# Altium integrated library Micron Memory Parallel NOR Flash.IntLib: 720 symbols (part 148 of 216)
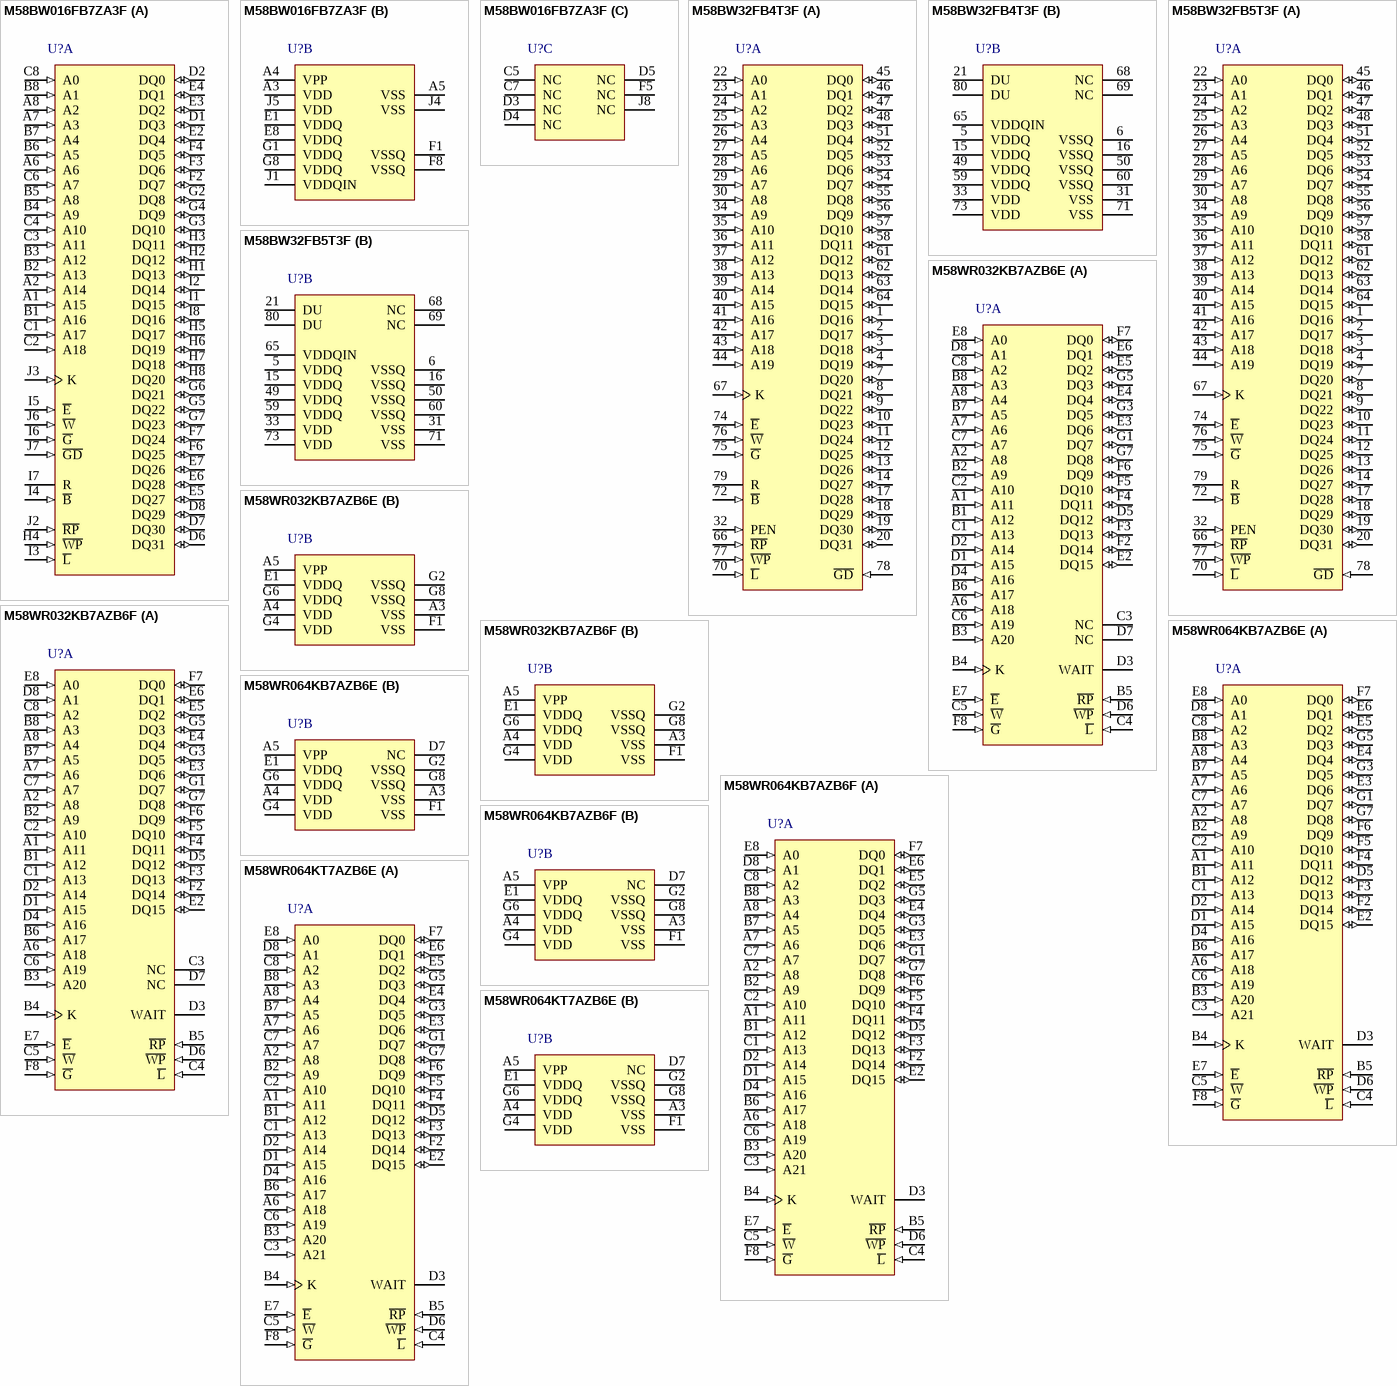
[diagram p184: symbols M58BW016FB7ZA3F to M58WR064KT7AZB6E]

## M58WR064KB7AZB6E
designator U?
64 Mb (x16) Automotive Parallel NOR Flash Memory, 70 ns, 1.7 to 2.0 V, 56-ball VFBGA (ZB), Tray; Part Family: M58WR; Manufacturer: Micron; PartNumber: M58WR064KB7AZB6E; Density: 64Mb; Op Temp: -40C to +85C; Speed: 70ns; Voltage: 1.7V-2.0V; DatasheetVersion: Rev. 6; PackageVersion: Rev 18; PackageReference: MICT-ZA-80; PackageDescription: 80-Ball LBGA, 12 X 10 mm, Pitch 1 mm; RoHS: Yes; Width: x16; Mounting Technology: Surface Mount; ComponentLink1Description: Manufacturer URL; ComponentLink1URL: http://www.micron.com/; ComponentLink2Description: Datasheet; ComponentLink2URL: http://www.micron.com/~/media/Documents/Products/Data%20Sheet/NOR%20Flash/Parallel/P30/306666_P30_130nm_Discrete_DS.pdf; ComponentLink3Description: Package Specification; ComponentLink3URL: http://www.micron.com/~/media/Documents/Products/Data%20Sheet/NOR%20Flash/Parallel/P30/306666_P30_130nm_Discrete_DS.pdf
footprint MICT-ZA-80 (BGA, 80-Balls, Body 12x10mm, Pitch 1mm)
part A pins: A1 A11 (in) "Address Input (A0-Amax) Amax is the highest order address input. It is equal to A19 in the M58WR016KT/B, to A20 in the M58WR032KT/B and, to A21 in the M58WR064KT/B. The Address Input select the cells in the memory array to (See Datasheet)", A2 A8 (in) "Address Input (A0-Amax) Amax is the highest order address input. It is equal to A19 in the M58WR016KT/B, to A20 in the M58WR032KT/B and, to A21 in the M58WR064KT/B. The Address Input select the cells in the memory array to (See Datasheet)", A6 A18 (in) "Address Input (A0-Amax) Amax is the highest order address input. It is equal to A19 in the M58WR016KT/B, to A20 in the M58WR032KT/B and, to A21 in the M58WR064KT/B. The Address Input select the cells in the memory array to (See Datasheet)", A7 A6 (in) "Address Input (A0-Amax) Amax is the highest order address input. It is equal to A19 in the M58WR016KT/B, to A20 in the M58WR032KT/B and, to A21 in the M58WR064KT/B. The Address Input select the cells in the memory array to (See Datasheet)", A8 A4 (in) "Address Input (A0-Amax) Amax is the highest order address input. It is equal to A19 in the M58WR016KT/B, to A20 in the M58WR032KT/B and, to A21 in the M58WR064KT/B. The Address Input select the cells in the memory array to (See Datasheet)", B1 A12 (in) "Address Input (A0-Amax) Amax is the highest order address input. It is equal to A19 in the M58WR016KT/B, to A20 in the M58WR032KT/B and, to A21 in the M58WR064KT/B. The Address Input select the cells in the memory array to (See Datasheet)", B2 A9 (in) "Address Input (A0-Amax) Amax is the highest order address input. It is equal to A19 in the M58WR016KT/B, to A20 in the M58WR032KT/B and, to A21 in the M58WR064KT/B. The Address Input select the cells in the memory array to (See Datasheet)", B3 A20 (in) "Address Input (A0-Amax) Amax is the highest order address input. It is equal to A19 in the M58WR016KT/B, to A20 in the M58WR032KT/B and, to A21 in the M58WR064KT/B. The Address Input select the cells in the memory array to (See Datasheet)", B4 K (in) "Clock (K) The clock input synchronizes the memory to the microcontroller during synchronous read operations; the address is latched on a Clock edge (rising or falling, according to the configuration settings) when Latch (See Datasheet)", B5 ~{RP} (in) "Reset (R\P\) The Reset input provides a hardware reset of the memory. When Reset is at VIL, the memory is in reset mode: the outputs are high impedance and the current consumption is reduced to the reset supply current IDD2. (See Datasheet)", B6 A17 (in) "Address Input (A0-Amax) Amax is the highest order address input. It is equal to A19 in the M58WR016KT/B, to A20 in the M58WR032KT/B and, to A21 in the M58WR064KT/B. The Address Input select the cells in the memory array to (See Datasheet)", B7 A5 (in) "Address Input (A0-Amax) Amax is the highest order address input. It is equal to A19 in the M58WR016KT/B, to A20 in the M58WR032KT/B and, to A21 in the M58WR064KT/B. The Address Input select the cells in the memory array to (See Datasheet)", B8 A3 (in) "Address Input (A0-Amax) Amax is the highest order address input. It is equal to A19 in the M58WR016KT/B, to A20 in the M58WR032KT/B and, to A21 in the M58WR064KT/B. The Address Input select the cells in the memory array to (See Datasheet)", C1 A13 (in) "Address Input (A0-Amax) Amax is the highest order address input. It is equal to A19 in the M58WR016KT/B, to A20 in the M58WR032KT/B and, to A21 in the M58WR064KT/B. The Address Input select the cells in the memory array to (See Datasheet)", C2 A10 (in) "Address Input (A0-Amax) Amax is the highest order address input. It is equal to A19 in the M58WR016KT/B, to A20 in the M58WR032KT/B and, to A21 in the M58WR064KT/B. The Address Input select the cells in the memory array to (See Datasheet)", C3 A21 (in) "Address Input (A0-Amax) Amax is the highest order address input. It is equal to A19 in the M58WR016KT/B, to A20 in the M58WR032KT/B and, to A21 in the M58WR064KT/B. The Address Input select the cells in the memory array to (See Datasheet)", C4 ~{L} (in) "Latch Enable (L\) Latch Enable latches the address bits on its rising edge. The address latch is transparent when Latch Enable is at VIL and it is inhibited when Latch Enable is at VIH. Latch Enable can be kept Low (also at (See Datasheet)", C5 ~{W} (in) "Write Enable (W\) The Write Enable input controls the bus write operation of the memory’s command interface. The data and address inputs are latched on the rising edge of Chip Enable or Write Enable, whichever occurs first.", C6 A19 (in) "Address Input (A0-Amax) Amax is the highest order address input. It is equal to A19 in the M58WR016KT/B, to A20 in the M58WR032KT/B and, to A21 in the M58WR064KT/B. The Address Input select the cells in the memory array to (See Datasheet)", C7 A7 (in) "Address Input (A0-Amax) Amax is the highest order address input. It is equal to A19 in the M58WR016KT/B, to A20 in the M58WR032KT/B and, to A21 in the M58WR064KT/B. The Address Input select the cells in the memory array to (See Datasheet)", C8 A2 (in) "Address Input (A0-Amax) Amax is the highest order address input. It is equal to A19 in the M58WR016KT/B, to A20 in the M58WR032KT/B and, to A21 in the M58WR064KT/B. The Address Input select the cells in the memory array to (See Datasheet)", D1 A15 (in) "Address Input (A0-Amax) Amax is the highest order address input. It is equal to A19 in the M58WR016KT/B, to A20 in the M58WR032KT/B and, to A21 in the M58WR064KT/B. The Address Input select the cells in the memory array to (See Datasheet)", D2 A14 (in) "Address Input (A0-Amax) Amax is the highest order address input. It is equal to A19 in the M58WR016KT/B, to A20 in the M58WR032KT/B and, to A21 in the M58WR064KT/B. The Address Input select the cells in the memory array to (See Datasheet)", D3 WAIT (hiz) "Wait (WAIT) Wait is an output signal used during synchronous read to indicate whether the data on the output bus are valid. This output is high impedance when Chip Enable is at VIH or Reset is at VIL. It can be configured to (See Datasheet)", D4 A16 (in) "Address Input (A0-Amax) Amax is the highest order address input. It is equal to A19 in the M58WR016KT/B, to A20 in the M58WR032KT/B and, to A21 in the M58WR064KT/B. The Address Input select the cells in the memory array to (See Datasheet)", D5 DQ12 (io) "Data inputs/outputs (DQ0-DQ15) The data I/O output the data stored at the selected address during a bus read operation or input a command or the data to be programmed during a bus write operation.", D6 ~{WP} (in) "Write Protect (W\P\) Write Protect is an input that provides additional hardware protection for each block. When Write Protect is at VIL, the lock-down is enabled and the protection status of the lockeddown blocks cannot be (See Datasheet)", D8 A1 (in) "Address Input (A0-Amax) Amax is the highest order Address Input. It is equal to A19 in the M58WR016KT/B, to A20 in the M58WR032KT/B and, to A21 in the M58WR064KT/B. The Address Input select the cells in the memory array to (See Datasheet)", E2 DQ15 (io) "Data input/output (DQ0-DQ15) The data I/O output the data stored at the selected address during a bus read operation or input a command or the data to be programmed during a bus write operation.", E3 DQ6 (io) "Data input/output (DQ0-DQ15) The data I/O output the data stored at the selected address during a bus read operation or input a command or the data to be programmed during a bus write operation.", E4 DQ4 (io) "Data INPUT/OUTPUT (DQ0-DQ15) The data I/O OUTPUT the data stored at the selected address during a bus read operation or input a command or the data to be programmed during a bus write operation.", E5 DQ2 (io) "Data input/Output (DQ0-DQ15) The data I/O output the data stored at the selected address during a bus read operation or input a command or the data to be programmed during a bus write operation.", E6 DQ1 (io) "Data inputs/Output (DQ0-DQ15) The data I/O output the data stored at the selected address during a bus read operation or input a command or the data to be programmed during a bus write operation.", E7 ~{E} (in) "Chip Enable (E\) The Chip Enable input activates the memory control logic, input buffers, decoders and sense amplifiers. When Chip Enable is at VILand Reset is at VIH the device is in active mode. When Chip Enable is at VIH (See Datasheet)", E8 A0 (in) "Address Input (A0-Amax) Amax is the highest order address input. It is equal to A19 in the M58WR016KT/B, to A20 in the M58WR032KT/B and, to A21 in the M58WR064KT/B. The Address Input select the cells in the memory array to (See Datasheet)", F2 DQ14 (io) "Data input/output (DQ0-DQ15) The data I/O output the data stored at the selected address during a bus read operation or input a command or the data to be programmed during a bus write operation.", F3 DQ13 (io) "Data input/output (DQ0-DQ15) The data I/O output the data stored at the selected address during a bus read operation or input a command or the data to be programmed during a bus write operation.", F4 DQ11 (io) "Data inputs/outputs (DQ0-DQ15) The data I/O output the data stored at the selected address during a bus read operation or input a command or the data to be programmed during a bus write operation.", F5 DQ10 (io) "Data inputs/outputs (DQ0-DQ15) The data I/O output the data stored at the selected address during a bus read operation or input a command or the data to be programmed during a bus write operation.", F6 DQ9 (io) "Data input/output (DQ0-DQ15) The data I/O output the data stored at the selected address during a bus read operation or input a command or the data to be programmed during a bus write operation.", F7 DQ0 (io) "Data Input/Output (DQ0-DQ15) The data I/O output the data stored at the selected address during a bus read operation or input a command or the data to be programmed during a bus write operation.", F8 ~{G} (in) "Output Enable (G\) The Output Enable input controls data outputs during the bus read operation of the memory.", G1 DQ7 (io) "Data inputs/outputs (DQ0-DQ15) The data I/O output the data stored at the selected address during a bus read operation or input a command or the data to be programmed during a bus write operation.", G3 DQ5 (io) "Data inputs/outputs (DQ0-DQ15) The data I/O output the data stored at the selected address during a bus read operation or input a command or the data to be programmed during a bus write operation.", G5 DQ3 (io) "Data input/outputs (DQ0-DQ15) The data I/O output the data stored at the selected address during a bus read operation or input a command or the data to be programmed during a bus write operation.", G7 DQ8 (io) "Data input/output (DQ0-DQ15) The data I/O output the data stored at the selected address during a bus read operation or input a command or the data to be programmed during a bus write operation."
part B pins: A3 VSS (power) "VSS ground:VSS ground is the reference for the core supply, and must be connected to the system ground.", A4 VDD (power) "VDD supply voltage VDD provides the power supply to the internal core of the memory device. It is the main power supply for all operations (read, program and erase).", A5 VPP (power) "VPP program supply voltage VPP is both a control input and a power supply pin. The two functions are selected by the voltage range applied to the pin. If VPP is kept in a low voltage range (0 V to VDDQ) VPP is seen as a (See Datasheet)", D7 NC "Not connected internally", E1 VDDQ (power) "VDDQ provides the power supply to the I/O pins and enables all outputs to be powered independently of VDD. VDDQ can be tied to VDD or can use a separate supply.", F1 VSS (power) "VSS ground:VSS ground is the reference for the core supply, and must be connected to the system ground.", G2 VSSQ (power) "VSSQ ground:VSSQ ground is the reference for the input/output circuitry driven by VDDQ. VSSQ must be connected to VSS", G4 VDD (power) "VDD supply voltage VDD provides the power supply to the internal core of the memory device. It is the main power supply for all operations (read, program and erase).", G6 VDDQ (power) "VDDQ supply voltage VDDQ provides the power supply to the I/O pins and enables all outputs to be powered independently of VDD. VDDQ can be tied to VDD or can use a separate supply.", G8 VSSQ (power) "VSSQ ground:VSSQ ground is the reference for the input/output circuitry driven by VDDQ. VSSQ must be connected to VSS"

## M58WR064KB7AZB6F
designator U?
64 Mb (x16) Automotive Parallel NOR Flash Memory, 70 ns, 1.7 to 2.0 V, 56-ball VFBGA (ZB), Tape & Reel; Part Family: M58WR; Manufacturer: Micron; PartNumber: M58WR064KB7AZB6F; Density: 64Mb; Op Temp: -40C to +85C; Speed: 70ns; Voltage: 1.7V-2.0V; DatasheetVersion: Rev. 6; PackageVersion: Rev 18; PackageReference: MICT-ZA-80; PackageDescription: 80-Ball LBGA, 12 X 10 mm, Pitch 1 mm; RoHS: Yes; Width: x16; Mounting Technology: Surface Mount; ComponentLink1Description: Manufacturer URL; ComponentLink1URL: http://www.micron.com/; ComponentLink2Description: Datasheet; ComponentLink2URL: http://www.micron.com/~/media/Documents/Products/Data%20Sheet/NOR%20Flash/Parallel/P30/306666_P30_130nm_Discrete_DS.pdf; ComponentLink3Description: Package Specification; ComponentLink3URL: http://www.micron.com/~/media/Documents/Products/Data%20Sheet/NOR%20Flash/Parallel/P30/306666_P30_130nm_Discrete_DS.pdf
footprint MICT-ZA-80 (BGA, 80-Balls, Body 12x10mm, Pitch 1mm)
part A pins: A1 A11 (in) "Address Input (A0-Amax) Amax is the highest order address input. It is equal to A19 in the M58WR016KT/B, to A20 in the M58WR032KT/B and, to A21 in the M58WR064KT/B. The Address Input select the cells in the memory array to (See Datasheet)", A2 A8 (in) "Address Input (A0-Amax) Amax is the highest order address input. It is equal to A19 in the M58WR016KT/B, to A20 in the M58WR032KT/B and, to A21 in the M58WR064KT/B. The Address Input select the cells in the memory array to (See Datasheet)", A6 A18 (in) "Address Input (A0-Amax) Amax is the highest order address input. It is equal to A19 in the M58WR016KT/B, to A20 in the M58WR032KT/B and, to A21 in the M58WR064KT/B. The Address Input select the cells in the memory array to (See Datasheet)", A7 A6 (in) "Address Input (A0-Amax) Amax is the highest order address input. It is equal to A19 in the M58WR016KT/B, to A20 in the M58WR032KT/B and, to A21 in the M58WR064KT/B. The Address Input select the cells in the memory array to (See Datasheet)", A8 A4 (in) "Address Input (A0-Amax) Amax is the highest order address input. It is equal to A19 in the M58WR016KT/B, to A20 in the M58WR032KT/B and, to A21 in the M58WR064KT/B. The Address Input select the cells in the memory array to (See Datasheet)", B1 A12 (in) "Address Input (A0-Amax) Amax is the highest order address input. It is equal to A19 in the M58WR016KT/B, to A20 in the M58WR032KT/B and, to A21 in the M58WR064KT/B. The Address Input select the cells in the memory array to (See Datasheet)", B2 A9 (in) "Address Input (A0-Amax) Amax is the highest order address input. It is equal to A19 in the M58WR016KT/B, to A20 in the M58WR032KT/B and, to A21 in the M58WR064KT/B. The Address Input select the cells in the memory array to (See Datasheet)", B3 A20 (in) "Address Input (A0-Amax) Amax is the highest order address input. It is equal to A19 in the M58WR016KT/B, to A20 in the M58WR032KT/B and, to A21 in the M58WR064KT/B. The Address Input select the cells in the memory array to (See Datasheet)", B4 K (in) "Clock (K) The clock input synchronizes the memory to the microcontroller during synchronous read operations; the address is latched on a Clock edge (rising or falling, according to the configuration settings) when Latch (See Datasheet)", B5 ~{RP} (in) "Reset (R\P\) The Reset input provides a hardware reset of the memory. When Reset is at VIL, the memory is in reset mode: the outputs are high impedance and the current consumption is reduced to the reset supply current IDD2. (See Datasheet)", B6 A17 (in) "Address Input (A0-Amax) Amax is the highest order address input. It is equal to A19 in the M58WR016KT/B, to A20 in the M58WR032KT/B and, to A21 in the M58WR064KT/B. The Address Input select the cells in the memory array to (See Datasheet)", B7 A5 (in) "Address Input (A0-Amax) Amax is the highest order address input. It is equal to A19 in the M58WR016KT/B, to A20 in the M58WR032KT/B and, to A21 in the M58WR064KT/B. The Address Input select the cells in the memory array to (See Datasheet)", B8 A3 (in) "Address Input (A0-Amax) Amax is the highest order address input. It is equal to A19 in the M58WR016KT/B, to A20 in the M58WR032KT/B and, to A21 in the M58WR064KT/B. The Address Input select the cells in the memory array to (See Datasheet)", C1 A13 (in) "Address Input (A0-Amax) Amax is the highest order address input. It is equal to A19 in the M58WR016KT/B, to A20 in the M58WR032KT/B and, to A21 in the M58WR064KT/B. The Address Input select the cells in the memory array to (See Datasheet)", C2 A10 (in) "Address Input (A0-Amax) Amax is the highest order address input. It is equal to A19 in the M58WR016KT/B, to A20 in the M58WR032KT/B and, to A21 in the M58WR064KT/B. The Address Input select the cells in the memory array to (See Datasheet)", C3 A21 (in) "Address Input (A0-Amax) Amax is the highest order address input. It is equal to A19 in the M58WR016KT/B, to A20 in the M58WR032KT/B and, to A21 in the M58WR064KT/B. The Address Input select the cells in the memory array to (See Datasheet)", C4 ~{L} (in) "Latch Enable (L\) Latch Enable latches the address bits on its rising edge. The address latch is transparent when Latch Enable is at VIL and it is inhibited when Latch Enable is at VIH. Latch Enable can be kept Low (also at (See Datasheet)", C5 ~{W} (in) "Write Enable (W\) The Write Enable input controls the bus write operation of the memory’s command interface. The data and address inputs are latched on the rising edge of Chip Enable or Write Enable, whichever occurs first.", C6 A19 (in) "Address Input (A0-Amax) Amax is the highest order address input. It is equal to A19 in the M58WR016KT/B, to A20 in the M58WR032KT/B and, to A21 in the M58WR064KT/B. The Address Input select the cells in the memory array to (See Datasheet)", C7 A7 (in) "Address Input (A0-Amax) Amax is the highest order address input. It is equal to A19 in the M58WR016KT/B, to A20 in the M58WR032KT/B and, to A21 in the M58WR064KT/B. The Address Input select the cells in the memory array to (See Datasheet)", C8 A2 (in) "Address Input (A0-Amax) Amax is the highest order address input. It is equal to A19 in the M58WR016KT/B, to A20 in the M58WR032KT/B and, to A21 in the M58WR064KT/B. The Address Input select the cells in the memory array to (See Datasheet)", D1 A15 (in) "Address Input (A0-Amax) Amax is the highest order address input. It is equal to A19 in the M58WR016KT/B, to A20 in the M58WR032KT/B and, to A21 in the M58WR064KT/B. The Address Input select the cells in the memory array to (See Datasheet)", D2 A14 (in) "Address Input (A0-Amax) Amax is the highest order address input. It is equal to A19 in the M58WR016KT/B, to A20 in the M58WR032KT/B and, to A21 in the M58WR064KT/B. The Address Input select the cells in the memory array to (See Datasheet)", D3 WAIT (hiz) "Wait (WAIT) Wait is an output signal used during synchronous read to indicate whether the data on the output bus are valid. This output is high impedance when Chip Enable is at VIH or Reset is at VIL. It can be configured to (See Datasheet)", D4 A16 (in) "Address Input (A0-Amax) Amax is the highest order address input. It is equal to A19 in the M58WR016KT/B, to A20 in the M58WR032KT/B and, to A21 in the M58WR064KT/B. The Address Input select the cells in the memory array to (See Datasheet)", D5 DQ12 (io) "Data inputs/outputs (DQ0-DQ15) The data I/O output the data stored at the selected address during a bus read operation or input a command or the data to be programmed during a bus write operation.", D6 ~{WP} (in) "Write Protect (W\P\) Write Protect is an input that provides additional hardware protection for each block. When Write Protect is at VIL, the lock-down is enabled and the protection status of the lockeddown blocks cannot be (See Datasheet)", D8 A1 (in) "Address Input (A0-Amax) Amax is the highest order Address Input. It is equal to A19 in the M58WR016KT/B, to A20 in the M58WR032KT/B and, to A21 in the M58WR064KT/B. The Address Input select the cells in the memory array to (See Datasheet)", E2 DQ15 (io) "Data input/output (DQ0-DQ15) The data I/O output the data stored at the selected address during a bus read operation or input a command or the data to be programmed during a bus write operation.", E3 DQ6 (io) "Data input/output (DQ0-DQ15) The data I/O output the data stored at the selected address during a bus read operation or input a command or the data to be programmed during a bus write operation.", E4 DQ4 (io) "Data INPUT/OUTPUT (DQ0-DQ15) The data I/O OUTPUT the data stored at the selected address during a bus read operation or input a command or the data to be programmed during a bus write operation.", E5 DQ2 (io) "Data input/Output (DQ0-DQ15) The data I/O output the data stored at the selected address during a bus read operation or input a command or the data to be programmed during a bus write operation.", E6 DQ1 (io) "Data inputs/Output (DQ0-DQ15) The data I/O output the data stored at the selected address during a bus read operation or input a command or the data to be programmed during a bus write operation.", E7 ~{E} (in) "Chip Enable (E\) The Chip Enable input activates the memory control logic, input buffers, decoders and sense amplifiers. When Chip Enable is at VILand Reset is at VIH the device is in active mode. When Chip Enable is at VIH (See Datasheet)", E8 A0 (in) "Address Input (A0-Amax) Amax is the highest order address input. It is equal to A19 in the M58WR016KT/B, to A20 in the M58WR032KT/B and, to A21 in the M58WR064KT/B. The Address Input select the cells in the memory array to (See Datasheet)", F2 DQ14 (io) "Data input/output (DQ0-DQ15) The data I/O output the data stored at the selected address during a bus read operation or input a command or the data to be programmed during a bus write operation.", F3 DQ13 (io) "Data input/output (DQ0-DQ15) The data I/O output the data stored at the selected address during a bus read operation or input a command or the data to be programmed during a bus write operation.", F4 DQ11 (io) "Data inputs/outputs (DQ0-DQ15) The data I/O output the data stored at the selected address during a bus read operation or input a command or the data to be programmed during a bus write operation.", F5 DQ10 (io) "Data inputs/outputs (DQ0-DQ15) The data I/O output the data stored at the selected address during a bus read operation or input a command or the data to be programmed during a bus write operation.", F6 DQ9 (io) "Data input/output (DQ0-DQ15) The data I/O output the data stored at the selected address during a bus read operation or input a command or the data to be programmed during a bus write operation.", F7 DQ0 (io) "Data Input/Output (DQ0-DQ15) The data I/O output the data stored at the selected address during a bus read operation or input a command or the data to be programmed during a bus write operation.", F8 ~{G} (in) "Output Enable (G\) The Output Enable input controls data outputs during the bus read operation of the memory.", G1 DQ7 (io) "Data inputs/outputs (DQ0-DQ15) The data I/O output the data stored at the selected address during a bus read operation or input a command or the data to be programmed during a bus write operation.", G3 DQ5 (io) "Data inputs/outputs (DQ0-DQ15) The data I/O output the data stored at the selected address during a bus read operation or input a command or the data to be programmed during a bus write operation.", G5 DQ3 (io) "Data input/outputs (DQ0-DQ15) The data I/O output the data stored at the selected address during a bus read operation or input a command or the data to be programmed during a bus write operation.", G7 DQ8 (io) "Data input/output (DQ0-DQ15) The data I/O output the data stored at the selected address during a bus read operation or input a command or the data to be programmed during a bus write operation."
part B pins: A3 VSS (power) "VSS ground:VSS ground is the reference for the core supply, and must be connected to the system ground.", A4 VDD (power) "VDD supply voltage VDD provides the power supply to the internal core of the memory device. It is the main power supply for all operations (read, program and erase).", A5 VPP (power) "VPP program supply voltage VPP is both a control input and a power supply pin. The two functions are selected by the voltage range applied to the pin. If VPP is kept in a low voltage range (0 V to VDDQ) VPP is seen as a (See Datasheet)", D7 NC "Not connected internally", E1 VDDQ (power) "VDDQ provides the power supply to the I/O pins and enables all outputs to be powered independently of VDD. VDDQ can be tied to VDD or can use a separate supply.", F1 VSS (power) "VSS ground:VSS ground is the reference for the core supply, and must be connected to the system ground.", G2 VSSQ (power) "VSSQ ground:VSSQ ground is the reference for the input/output circuitry driven by VDDQ. VSSQ must be connected to VSS", G4 VDD (power) "VDD supply voltage VDD provides the power supply to the internal core of the memory device. It is the main power supply for all operations (read, program and erase).", G6 VDDQ (power) "VDDQ supply voltage VDDQ provides the power supply to the I/O pins and enables all outputs to be powered independently of VDD. VDDQ can be tied to VDD or can use a separate supply.", G8 VSSQ (power) "VSSQ ground:VSSQ ground is the reference for the input/output circuitry driven by VDDQ. VSSQ must be connected to VSS"

## M58WR064KT7AZB6E
designator U?
64 Mb (x16) Automotive Parallel NOR Flash Memory, 70 ns, 1.7 to 2.0 V, 56-ball VFBGA (ZB), Tray; Part Family: M58WR; Manufacturer: Micron; PartNumber: M58WR064KT7AZB6E; Density: 64Mb; Op Temp: -40C to +85C; Speed: 70ns; Voltage: 1.7V-2.0V; DatasheetVersion: Rev. 6; PackageVersion: Rev 18; PackageReference: MICT-ZA-80; PackageDescription: 80-Ball LBGA, 12 X 10 mm, Pitch 1 mm; RoHS: Yes; Width: x16; Mounting Technology: Surface Mount; ComponentLink1Description: Manufacturer URL; ComponentLink1URL: http://www.micron.com/; ComponentLink2Description: Datasheet; ComponentLink2URL: http://www.micron.com/~/media/Documents/Products/Data%20Sheet/NOR%20Flash/Parallel/P30/306666_P30_130nm_Discrete_DS.pdf; ComponentLink3Description: Package Specification; ComponentLink3URL: http://www.micron.com/~/media/Documents/Products/Data%20Sheet/NOR%20Flash/Parallel/P30/306666_P30_130nm_Discrete_DS.pdf
footprint MICT-ZA-80 (BGA, 80-Balls, Body 12x10mm, Pitch 1mm)
part A pins: A1 A11 (in) "Address Input (A0-Amax) Amax is the highest order address input. It is equal to A19 in the M58WR016KT/B, to A20 in the M58WR032KT/B and, to A21 in the M58WR064KT/B. The Address Input select the cells in the memory array to (See Datasheet)", A2 A8 (in) "Address Input (A0-Amax) Amax is the highest order address input. It is equal to A19 in the M58WR016KT/B, to A20 in the M58WR032KT/B and, to A21 in the M58WR064KT/B. The Address Input select the cells in the memory array to (See Datasheet)", A6 A18 (in) "Address Input (A0-Amax) Amax is the highest order address input. It is equal to A19 in the M58WR016KT/B, to A20 in the M58WR032KT/B and, to A21 in the M58WR064KT/B. The Address Input select the cells in the memory array to (See Datasheet)", A7 A6 (in) "Address Input (A0-Amax) Amax is the highest order address input. It is equal to A19 in the M58WR016KT/B, to A20 in the M58WR032KT/B and, to A21 in the M58WR064KT/B. The Address Input select the cells in the memory array to (See Datasheet)", A8 A4 (in) "Address Input (A0-Amax) Amax is the highest order address input. It is equal to A19 in the M58WR016KT/B, to A20 in the M58WR032KT/B and, to A21 in the M58WR064KT/B. The Address Input select the cells in the memory array to (See Datasheet)", B1 A12 (in) "Address Input (A0-Amax) Amax is the highest order address input. It is equal to A19 in the M58WR016KT/B, to A20 in the M58WR032KT/B and, to A21 in the M58WR064KT/B. The Address Input select the cells in the memory array to (See Datasheet)", B2 A9 (in) "Address Input (A0-Amax) Amax is the highest order address input. It is equal to A19 in the M58WR016KT/B, to A20 in the M58WR032KT/B and, to A21 in the M58WR064KT/B. The Address Input select the cells in the memory array to (See Datasheet)", B3 A20 (in) "Address Input (A0-Amax) Amax is the highest order address input. It is equal to A19 in the M58WR016KT/B, to A20 in the M58WR032KT/B and, to A21 in the M58WR064KT/B. The Address Input select the cells in the memory array to (See Datasheet)", B4 K (in) "Clock (K) The clock input synchronizes the memory to the microcontroller during synchronous read operations; the address is latched on a Clock edge (rising or falling, according to the configuration settings) when Latch (See Datasheet)", B5 ~{RP} (in) "Reset (R\P\) The Reset input provides a hardware reset of the memory. When Reset is at VIL, the memory is in reset mode: the outputs are high impedance and the current consumption is reduced to the reset supply current IDD2. (See Datasheet)", B6 A17 (in) "Address Input (A0-Amax) Amax is the highest order address input. It is equal to A19 in the M58WR016KT/B, to A20 in the M58WR032KT/B and, to A21 in the M58WR064KT/B. The Address Input select the cells in the memory array to (See Datasheet)", B7 A5 (in) "Address Input (A0-Amax) Amax is the highest order address input. It is equal to A19 in the M58WR016KT/B, to A20 in the M58WR032KT/B and, to A21 in the M58WR064KT/B. The Address Input select the cells in the memory array to (See Datasheet)", B8 A3 (in) "Address Input (A0-Amax) Amax is the highest order address input. It is equal to A19 in the M58WR016KT/B, to A20 in the M58WR032KT/B and, to A21 in the M58WR064KT/B. The Address Input select the cells in the memory array to (See Datasheet)", C1 A13 (in) "Address Input (A0-Amax) Amax is the highest order address input. It is equal to A19 in the M58WR016KT/B, to A20 in the M58WR032KT/B and, to A21 in the M58WR064KT/B. The Address Input select the cells in the memory array to (See Datasheet)", C2 A10 (in) "Address Input (A0-Amax) Amax is the highest order address input. It is equal to A19 in the M58WR016KT/B, to A20 in the M58WR032KT/B and, to A21 in the M58WR064KT/B. The Address Input select the cells in the memory array to (See Datasheet)", C3 A21 (in) "Address Input (A0-Amax) Amax is the highest order address input. It is equal to A19 in the M58WR016KT/B, to A20 in the M58WR032KT/B and, to A21 in the M58WR064KT/B. The Address Input select the cells in the memory array to (See Datasheet)", C4 ~{L} (in) "Latch Enable (L\) Latch Enable latches the address bits on its rising edge. The address latch is transparent when Latch Enable is at VIL and it is inhibited when Latch Enable is at VIH. Latch Enable can be kept Low (also at (See Datasheet)", C5 ~{W} (in) "Write Enable (W\) The Write Enable input controls the bus write operation of the memory’s command interface. The data and address inputs are latched on the rising edge of Chip Enable or Write Enable, whichever occurs first.", C6 A19 (in) "Address Input (A0-Amax) Amax is the highest order address input. It is equal to A19 in the M58WR016KT/B, to A20 in the M58WR032KT/B and, to A21 in the M58WR064KT/B. The Address Input select the cells in the memory array to (See Datasheet)", C7 A7 (in) "Address Input (A0-Amax) Amax is the highest order address input. It is equal to A19 in the M58WR016KT/B, to A20 in the M58WR032KT/B and, to A21 in the M58WR064KT/B. The Address Input select the cells in the memory array to (See Datasheet)", C8 A2 (in) "Address Input (A0-Amax) Amax is the highest order address input. It is equal to A19 in the M58WR016KT/B, to A20 in the M58WR032KT/B and, to A21 in the M58WR064KT/B. The Address Input select the cells in the memory array to (See Datasheet)", D1 A15 (in) "Address Input (A0-Amax) Amax is the highest order address input. It is equal to A19 in the M58WR016KT/B, to A20 in the M58WR032KT/B and, to A21 in the M58WR064KT/B. The Address Input select the cells in the memory array to (See Datasheet)", D2 A14 (in) "Address Input (A0-Amax) Amax is the highest order address input. It is equal to A19 in the M58WR016KT/B, to A20 in the M58WR032KT/B and, to A21 in the M58WR064KT/B. The Address Input select the cells in the memory array to (See Datasheet)", D3 WAIT (hiz) "Wait (WAIT) Wait is an output signal used during synchronous read to indicate whether the data on the output bus are valid. This output is high impedance when Chip Enable is at VIH or Reset is at VIL. It can be configured to (See Datasheet)", D4 A16 (in) "Address Input (A0-Amax) Amax is the highest order address input. It is equal to A19 in the M58WR016KT/B, to A20 in the M58WR032KT/B and, to A21 in the M58WR064KT/B. The Address Input select the cells in the memory array to (See Datasheet)", D5 DQ12 (io) "Data inputs/outputs (DQ0-DQ15) The data I/O output the data stored at the selected address during a bus read operation or input a command or the data to be programmed during a bus write operation.", D6 ~{WP} (in) "Write Protect (W\P\) Write Protect is an input that provides additional hardware protection for each block. When Write Protect is at VIL, the lock-down is enabled and the protection status of the lockeddown blocks cannot be (See Datasheet)", D8 A1 (in) "Address Input (A0-Amax) Amax is the highest order Address Input. It is equal to A19 in the M58WR016KT/B, to A20 in the M58WR032KT/B and, to A21 in the M58WR064KT/B. The Address Input select the cells in the memory array to (See Datasheet)", E2 DQ15 (io) "Data input/output (DQ0-DQ15) The data I/O output the data stored at the selected address during a bus read operation or input a command or the data to be programmed during a bus write operation.", E3 DQ6 (io) "Data input/output (DQ0-DQ15) The data I/O output the data stored at the selected address during a bus read operation or input a command or the data to be programmed during a bus write operation.", E4 DQ4 (io) "Data INPUT/OUTPUT (DQ0-DQ15) The data I/O OUTPUT the data stored at the selected address during a bus read operation or input a command or the data to be programmed during a bus write operation.", E5 DQ2 (io) "Data input/Output (DQ0-DQ15) The data I/O output the data stored at the selected address during a bus read operation or input a command or the data to be programmed during a bus write operation.", E6 DQ1 (io) "Data inputs/Output (DQ0-DQ15) The data I/O output the data stored at the selected address during a bus read operation or input a command or the data to be programmed during a bus write operation.", E7 ~{E} (in) "Chip Enable (E\) The Chip Enable input activates the memory control logic, input buffers, decoders and sense amplifiers. When Chip Enable is at VILand Reset is at VIH the device is in active mode. When Chip Enable is at VIH (See Datasheet)", E8 A0 (in) "Address Input (A0-Amax) Amax is the highest order address input. It is equal to A19 in the M58WR016KT/B, to A20 in the M58WR032KT/B and, to A21 in the M58WR064KT/B. The Address Input select the cells in the memory array to (See Datasheet)", F2 DQ14 (io) "Data input/output (DQ0-DQ15) The data I/O output the data stored at the selected address during a bus read operation or input a command or the data to be programmed during a bus write operation.", F3 DQ13 (io) "Data input/output (DQ0-DQ15) The data I/O output the data stored at the selected address during a bus read operation or input a command or the data to be programmed during a bus write operation.", F4 DQ11 (io) "Data inputs/outputs (DQ0-DQ15) The data I/O output the data stored at the selected address during a bus read operation or input a command or the data to be programmed during a bus write operation.", F5 DQ10 (io) "Data inputs/outputs (DQ0-DQ15) The data I/O output the data stored at the selected address during a bus read operation or input a command or the data to be programmed during a bus write operation.", F6 DQ9 (io) "Data input/output (DQ0-DQ15) The data I/O output the data stored at the selected address during a bus read operation or input a command or the data to be programmed during a bus write operation.", F7 DQ0 (io) "Data Input/Output (DQ0-DQ15) The data I/O output the data stored at the selected address during a bus read operation or input a command or the data to be programmed during a bus write operation.", F8 ~{G} (in) "Output Enable (G\) The Output Enable input controls data outputs during the bus read operation of the memory.", G1 DQ7 (io) "Data inputs/outputs (DQ0-DQ15) The data I/O output the data stored at the selected address during a bus read operation or input a command or the data to be programmed during a bus write operation.", G3 DQ5 (io) "Data inputs/outputs (DQ0-DQ15) The data I/O output the data stored at the selected address during a bus read operation or input a command or the data to be programmed during a bus write operation.", G5 DQ3 (io) "Data input/outputs (DQ0-DQ15) The data I/O output the data stored at the selected address during a bus read operation or input a command or the data to be programmed during a bus write operation.", G7 DQ8 (io) "Data input/output (DQ0-DQ15) The data I/O output the data stored at the selected address during a bus read operation or input a command or the data to be programmed during a bus write operation."
part B pins: A3 VSS (power) "VSS ground:VSS ground is the reference for the core supply, and must be connected to the system ground.", A4 VDD (power) "VDD supply voltage VDD provides the power supply to the internal core of the memory device. It is the main power supply for all operations (read, program and erase).", A5 VPP (power) "VPP program supply voltage VPP is both a control input and a power supply pin. The two functions are selected by the voltage range applied to the pin. If VPP is kept in a low voltage range (0 V to VDDQ) VPP is seen as a (See Datasheet)", D7 NC "Not connected internally", E1 VDDQ (power) "VDDQ provides the power supply to the I/O pins and enables all outputs to be powered independently of VDD. VDDQ can be tied to VDD or can use a separate supply.", F1 VSS (power) "VSS ground:VSS ground is the reference for the core supply, and must be connected to the system ground.", G2 VSSQ (power) "VSSQ ground:VSSQ ground is the reference for the input/output circuitry driven by VDDQ. VSSQ must be connected to VSS", G4 VDD (power) "VDD supply voltage VDD provides the power supply to the internal core of the memory device. It is the main power supply for all operations (read, program and erase).", G6 VDDQ (power) "VDDQ supply voltage VDDQ provides the power supply to the I/O pins and enables all outputs to be powered independently of VDD. VDDQ can be tied to VDD or can use a separate supply.", G8 VSSQ (power) "VSSQ ground:VSSQ ground is the reference for the input/output circuitry driven by VDDQ. VSSQ must be connected to VSS"

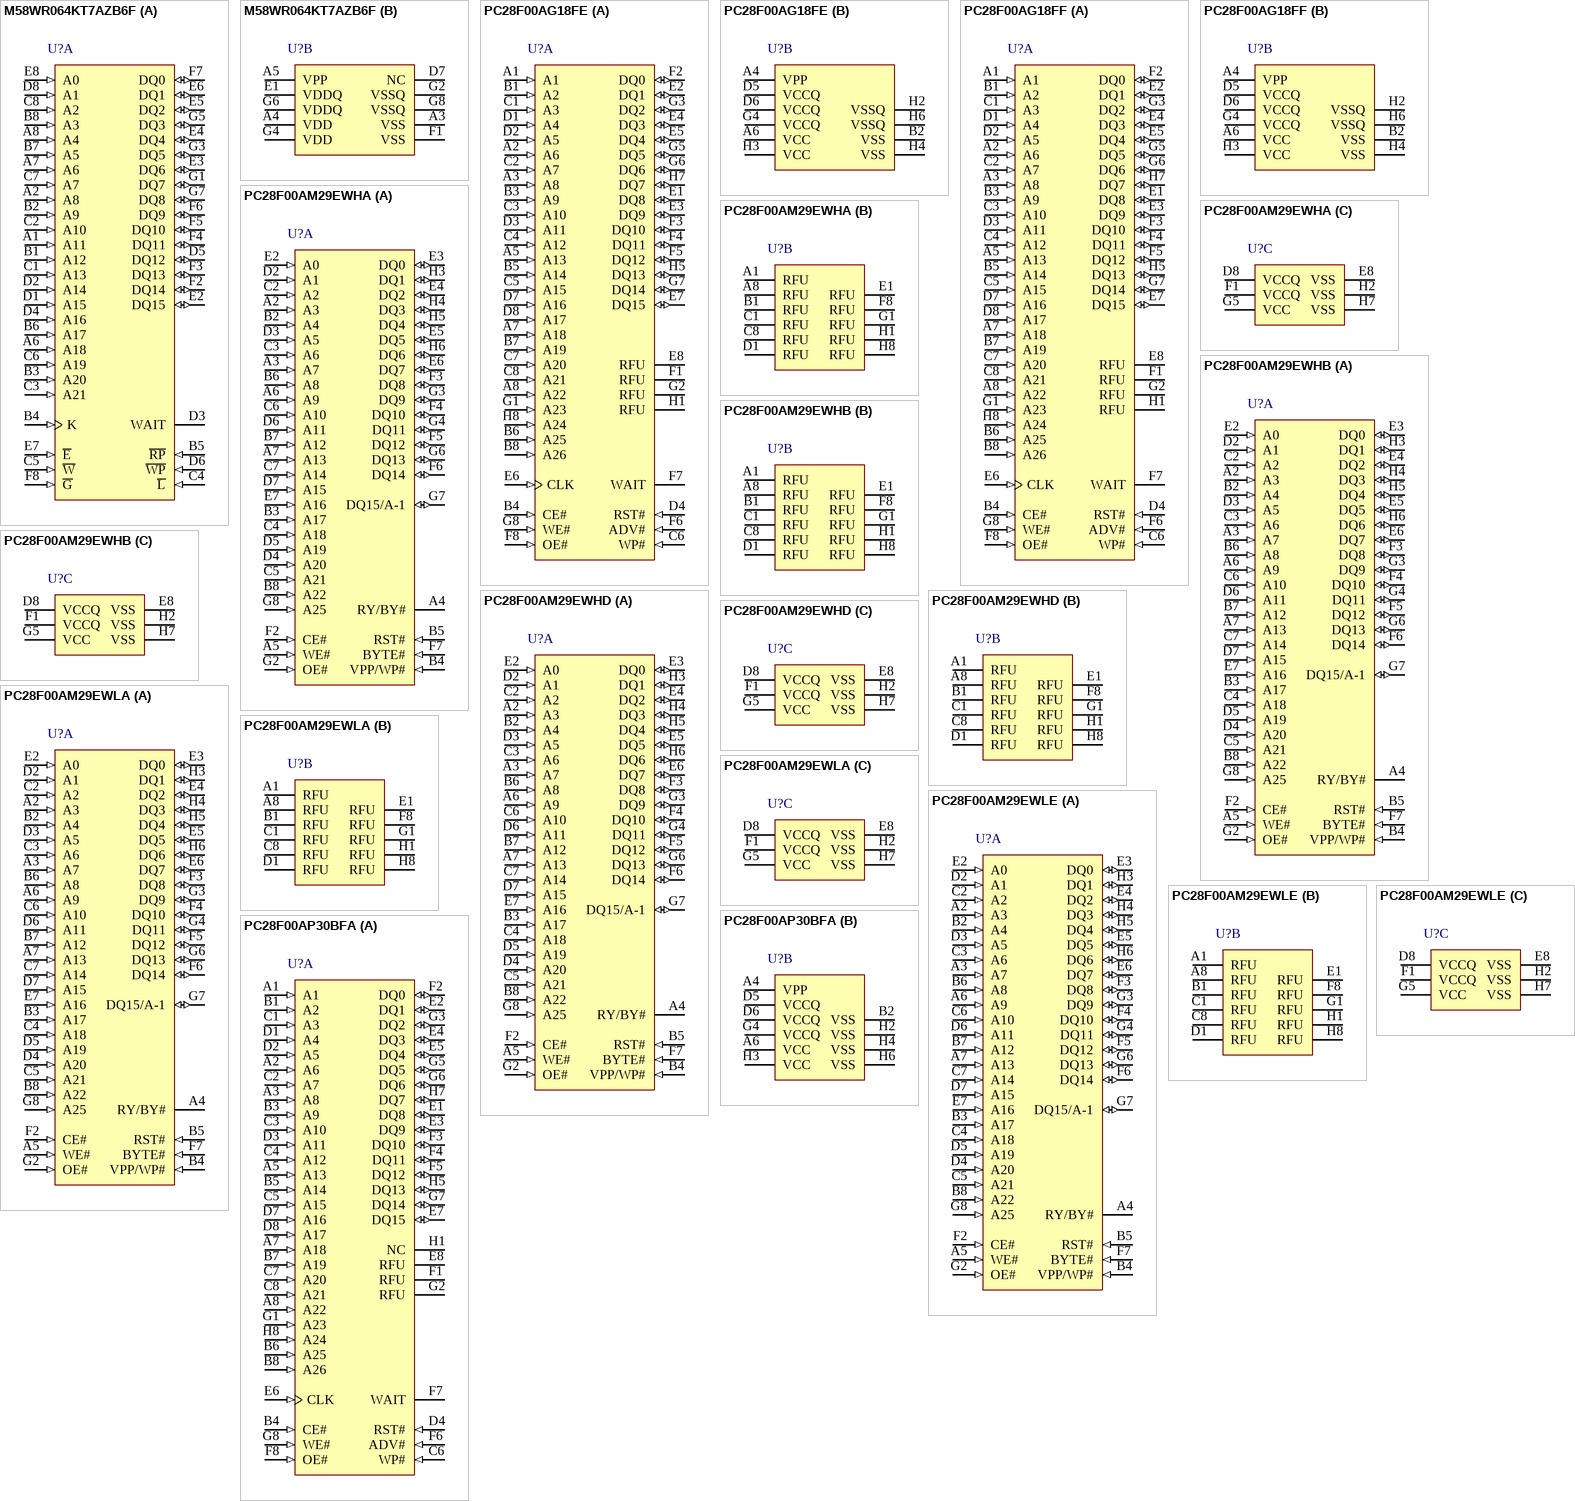
[diagram p39: symbols M58WR064KT7AZB6F to PC28F00AP30BFA]